# Altium footprint library SN65LVDT41PW.PcbLib: 4 footprints
Each footprint in its own frame and in the unit in brackets; x right, y up, seen from the top. Pads: shape width x height; smd on the part's side, far side on the other; paste and mask are expansions set on the pad; w line width, h text height; cw(c..) or ccw(c..) is an arc to the next point about the centre after c.
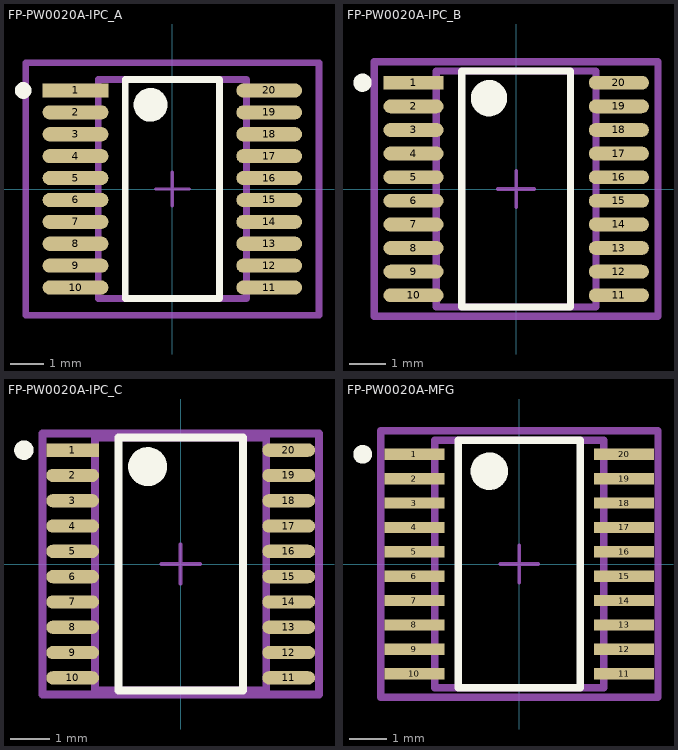
[diagram p0: the footprints below, top view; thin cyan lines are the x and y axes]

## FP-PW0020A-IPC_A [mm]
pads (20):
  rect 1.955x0.421 smd paste+0 mask+0: 1(-2.875,2.925)
  rrect100% 1.955x0.421 smd paste+0 mask+0: 2(-2.875,2.275) 3(-2.875,1.625) 4(-2.875,0.975) 5(-2.875,0.325) 6(-2.875,-0.325) 7(-2.875,-0.975) 8(-2.875,-1.625) 9(-2.875,-2.275) 10(-2.875,-2.925) 11(2.875,-2.925) 12(2.875,-2.275) 13(2.875,-1.625) 14(2.875,-0.975) 15(2.875,-0.325) 16(2.875,0.325) 17(2.875,0.975) 18(2.875,1.625) 19(2.875,2.275) 20(2.875,2.925)
Top Overlay:
  circle w0.25: c-4.428,2.925 r0.125
  circle w0.5: c-0.648,2.5 r0.25
  lines w0.2: -1.398,-3.25 -1.398,3.25 1.398,3.25 1.398,-3.25 -1.398,-3.25
Top Assembly:
  lines w0.2: -4.353,-3.75 -4.353,3.75 4.353,3.75 4.353,-3.75 -4.353,-3.75
  text ".Designator" at 0,0.187 h1
Top 3D Body:
  lines w0.2: -2.2,-3.25 -2.2,3.25 2.2,3.25 2.2,-3.25 -2.2,-3.25
Top Courtyard:
  lines w0.2: -4.353,-3.75 -4.353,3.75 4.353,3.75 4.353,-3.75 -4.353,-3.75
Top Component Center:
  lines w0.1: -0.5,0 0.5,0 ; 0,-0.5 0,0.5
3D body "IC_Texas_Instruments_CDCE906PW_eec.STEP": height 0.25, standoff 0, extent -4.353,-3.75 4.353,3.75

## FP-PW0020A-IPC_B [mm]
pads (20):
  rect 1.655x0.381 smd paste+0 mask+0: 1(-2.825,2.925)
  rrect100% 1.655x0.381 smd paste+0 mask+0: 2(-2.825,2.275) 3(-2.825,1.625) 4(-2.825,0.975) 5(-2.825,0.325) 6(-2.825,-0.325) 7(-2.825,-0.975) 8(-2.825,-1.625) 9(-2.825,-2.275) 10(-2.825,-2.925) 11(2.825,-2.925) 12(2.825,-2.275) 13(2.825,-1.625) 14(2.825,-0.975) 15(2.825,-0.325) 16(2.825,0.325) 17(2.825,0.975) 18(2.825,1.625) 19(2.825,2.275) 20(2.825,2.925)
Top Overlay:
  circle w0.5: c-0.748,2.5 r0.25
  circle w0.25: c-4.228,2.925 r0.125
  lines w0.2: -1.498,-3.25 1.498,-3.25 1.498,3.25 -1.498,3.25 -1.498,-3.25
Top Assembly:
  lines w0.2: -3.903,-3.5 3.903,-3.5 3.903,3.5 -3.903,3.5 -3.903,-3.5
  text ".Designator" at 0,0.187 h1
Top 3D Body:
  lines w0.2: -2.2,-3.25 2.2,-3.25 2.2,3.25 -2.2,3.25 -2.2,-3.25
Top Courtyard:
  lines w0.2: -3.903,-3.5 3.903,-3.5 3.903,3.5 -3.903,3.5 -3.903,-3.5
Top Component Center:
  lines w0.1: -0.5,0 0.5,0 ; 0,-0.5 0,0.5
3D body "IC_Texas_Instruments_CDCE906PW_eec.STEP": height 0.25, standoff 0, extent -3.903,-3.5 3.903,3.5

## FP-PW0020A-IPC_C [mm]
pads (20):
  rect 1.355x0.341 smd paste+0 mask+0: 1(-2.775,2.925)
  rrect100% 1.355x0.341 smd paste+0 mask+0: 2(-2.775,2.275) 3(-2.775,1.625) 4(-2.775,0.975) 5(-2.775,0.325) 6(-2.775,-0.325) 7(-2.775,-0.975) 8(-2.775,-1.625) 9(-2.775,-2.275) 10(-2.775,-2.925) 11(2.775,-2.925) 12(2.775,-2.275) 13(2.775,-1.625) 14(2.775,-0.975) 15(2.775,-0.325) 16(2.775,0.325) 17(2.775,0.975) 18(2.775,1.625) 19(2.775,2.275) 20(2.775,2.925)
Top Overlay:
  circle w0.5: c-0.848,2.5 r0.25
  circle w0.25: c-4.028,2.925 r0.125
  lines w0.2: -1.598,-3.25 1.598,-3.25 1.598,3.25 -1.598,3.25 -1.598,-3.25
Top Assembly:
  lines w0.2: -3.553,-3.35 3.553,-3.35 3.553,3.35 -3.553,3.35 -3.553,-3.35
  text ".Designator" at 0,0.187 h1
Top 3D Body:
  lines w0.2: -2.2,-3.25 2.2,-3.25 2.2,3.25 -2.2,3.25 -2.2,-3.25
Top Courtyard:
  lines w0.2: -3.553,-3.35 3.553,-3.35 3.553,3.35 -3.553,3.35 -3.553,-3.35
Top Component Center:
  lines w0.1: -0.5,0 0.5,0 ; 0,-0.5 0,0.5
3D body "IC_Texas_Instruments_CDCE906PW_eec.STEP": height 0.25, standoff 0, extent -3.553,-3.35 3.553,3.35

## FP-PW0020A-MFG [mm]
pads (20):
  rect 1.6x0.3 smd paste-1000 mask+0: 1(-2.8,2.925) 2(-2.8,2.275) 3(-2.8,1.625) 4(-2.8,0.975) 5(-2.8,0.325) 6(-2.8,-0.325) 7(-2.8,-0.975) 8(-2.8,-1.625) 9(-2.8,-2.275) 10(-2.8,-2.925) 11(2.8,-2.925) 12(2.8,-2.275) 13(2.8,-1.625) 14(2.8,-0.975) 15(2.8,-0.325) 16(2.8,0.325) 17(2.8,0.975) 18(2.8,1.625) 19(2.8,2.275) 20(2.8,2.925)
Top Overlay:
  circle w0.25: c-4.175,2.925 r0.125
  circle w0.5: c-0.8,2.475 r0.25
  lines w0.2: -1.625,-3.3 1.625,-3.3 ; -1.625,-3.3 1.625,-3.3 ; -1.625,-3.3 -1.625,3.3 1.625,3.3 1.625,-3.3
Top Paste:
  rectangle: -3.575,-3.05 -2.025,-2.8
  rectangle: -3.575,-2.4 -2.025,-2.15
  rectangle: -3.575,-1.75 -2.025,-1.5
  rectangle: -3.575,-1.1 -2.025,-0.85
  rectangle: -3.575,-0.45 -2.025,-0.2
  rectangle: -3.575,0.2 -2.025,0.45
  rectangle: -3.575,0.85 -2.025,1.1
  rectangle: -3.575,1.5 -2.025,1.75
  rectangle: -3.575,2.15 -2.025,2.4
  rectangle: -3.575,2.8 -2.025,3.05
  rectangle: 2.025,-3.05 3.575,-2.8
  rectangle: 2.025,-2.4 3.575,-2.15
  rectangle: 2.025,-1.75 3.575,-1.5
  rectangle: 2.025,-1.1 3.575,-0.85
  rectangle: 2.025,-0.45 3.575,-0.2
  rectangle: 2.025,0.2 3.575,0.45
  rectangle: 2.025,0.85 3.575,1.1
  rectangle: 2.025,1.5 3.575,1.75
  rectangle: 2.025,2.15 3.575,2.4
  rectangle: 2.025,2.8 3.575,3.05
Top Assembly:
  lines w0.2: -3.7,-3.55 3.7,-3.55 3.7,3.55 -3.7,3.55 -3.7,-3.55
  text ".Designator" at 0,-0.001 h1
Top 3D Body:
  lines w0.2: -2.25,-3.3 2.25,-3.3 2.25,3.3 -2.25,3.3 -2.25,-3.3
Top Courtyard:
  lines w0.2: -3.7,-3.55 3.7,-3.55 3.7,3.55 -3.7,3.55 -3.7,-3.55
Top Component Center:
  lines w0.1: -0.5,0 0.5,0 ; 0,-0.5 0,0.5
3D body "IC_Texas_Instruments_CDCE906PW_eec.STEP": height 0.25, standoff 0, extent -3.7,-3.55 3.7,3.55